# Altium schematic symbol library 树莓派模块.SchLib: 10 symbols
Pins are listed as number, name and electrical type; pins without a type are passive.

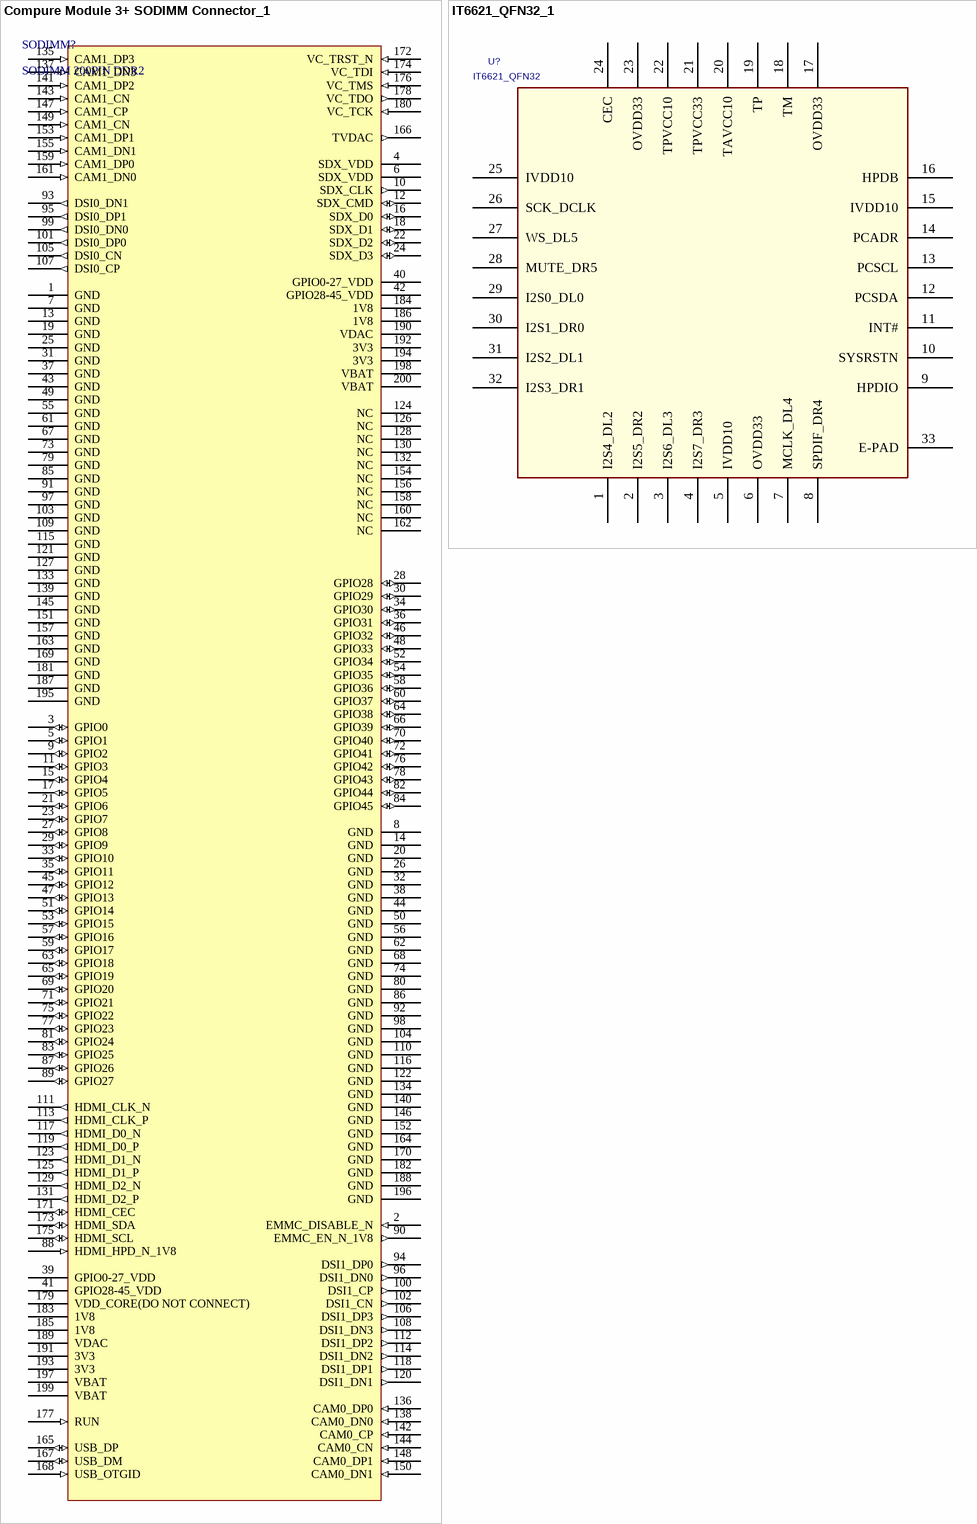
[diagram p0: symbols Compure Module 3+ SODIMM Connector_1 to IT6621_QFN32_1]

## Compure Module 3+ SODIMM Connector_1
designator SODIMM?, comment SODIMM 200PIN DDR2
ComponentLink1Description: DataSheets; ComponentLink1URL: https://www.raspberrypi.org/documentation/hardware/computemodule/datasheets/rpi_DATA_CM3plus_1p0.pdf
footprint SODIMM 200PIN (200 位 SODIMM DDR2 SDRAM 表面贴装)
pins: 1 GND (power), 2 EMMC_DISABLE_N (in), 3 GPIO0 (io), 4 SDX_VDD (power), 5 GPIO1 (io), 6 SDX_VDD (power), 7 GND (power), 8 GND (power), 9 GPIO2 (io), 10 SDX_CLK (out), 11 GPIO3 (io), 12 SDX_CMD (io), 13 GND (power), 14 GND (power), 15 GPIO4 (io), 16 SDX_D0 (io), 17 GPIO5 (io), 18 SDX_D1 (io), 19 GND (power), 20 GND (power), 21 GPIO6 (io), 22 SDX_D2 (io), 23 GPIO7 (io), 24 SDX_D3 (io), 25 GND (power), 26 GND (power), 27 GPIO8 (io), 28 GPIO28 (io), 29 GPIO9 (io), 30 GPIO29 (io), 31 GND (power), 32 GND (power), 33 GPIO10 (io), 34 GPIO30 (io), 35 GPIO11 (io), 36 GPIO31 (io), 37 GND (power), 38 GND (power), 39 GPIO0-27_VDD (power), 40 GPIO0-27_VDD (power), 41 GPIO28-45_VDD (power), 42 GPIO28-45_VDD (power), 43 GND (power), 44 GND (power), 45 GPIO12 (io), 46 GPIO32 (io), 47 GPIO13 (io), 48 GPIO33 (io), 49 GND (power), 50 GND (power), 51 GPIO14 (io), 52 GPIO34 (io), 53 GPIO15 (io), 54 GPIO35 (io), 55 GND (power), 56 GND (power), 57 GPIO16 (io), 58 GPIO36 (io), 59 GPIO17 (io), 60 GPIO37 (io), 61 GND (power), 62 GND (power), 63 GPIO18 (io), 64 GPIO38 (io), 65 GPIO19 (io), 66 GPIO39 (io), 67 GND (power), 68 GND (power), 69 GPIO20 (io), 70 GPIO40 (io), 71 GPIO21 (io), 72 GPIO41 (io), 73 GND (power), 74 GND (power), 75 GPIO22 (io), 76 GPIO42 (io), 77 GPIO23 (io), 78 GPIO43 (io), 79 GND (power), 80 GND (power), 81 GPIO24 (io), 82 GPIO44 (io), 83 GPIO25 (io), 84 GPIO45 (io), 85 GND (power), 86 GND (power), 87 GPIO26 (io), 88 HDMI_HPD_N_1V8 (in), 89 GPIO27 (io), 90 EMMC_EN_N_1V8 (out), 91 GND (power), 92 GND (power), 93 DSI0_DN1 (out), 94 DSI1_DP0 (out), 95 DSI0_DP1 (out), 96 DSI1_DN0 (out), 97 GND (power), 98 GND (power), 99 DSI0_DN0 (out), 100 DSI1_CP (out), 101 DSI0_DP0 (out), 102 DSI1_CN (out), 103 GND (power), 104 GND (power), 105 DSI0_CN (out), 106 DSI1_DP3 (out), 107 DSI0_CP (out), 108 DSI1_DN3 (out), 109 GND (power), 110 GND (power), 111 HDMI_CLK_N (out), 112 DSI1_DP2 (out), 113 HDMI_CLK_P (out), 114 DSI1_DN2 (out), 115 GND (power), 116 GND (power), 117 HDMI_D0_N (out), 118 DSI1_DP1 (out), 119 HDMI_D0_P (out), 120 DSI1_DN1 (out), 121 GND (power), 122 GND (power), 123 HDMI_D1_N (out), 124 NC, 125 HDMI_D1_P (out), 126 NC, 127 GND (power), 128 NC, 129 HDMI_D2_N (out), 130 NC, 131 HDMI_D2_P (out), 132 NC, 133 GND (power), 134 GND (power), 135 CAM1_DP3 (in), 136 CAM0_DP0 (in), 137 CAM1_DN3 (in), 138 CAM0_DN0 (in), 139 GND (power), 140 GND (power), 141 CAM1_DP2 (in), 142 CAM0_CP (in), 143 CAM1_CN (in), 144 CAM0_CN (in), 145 GND (power), 146 GND (power), 147 CAM1_CP (in), 148 CAM0_DP1 (in), 149 CAM1_CN (in), 150 CAM0_DN1 (in), 151 GND (power), 152 GND (power), 153 CAM1_DP1 (in), 154 NC, 155 CAM1_DN1 (in), 156 NC, 157 GND (power), 158 NC, 159 CAM1_DP0 (in), 160 NC, 161 CAM1_DN0 (in), 162 NC, 163 GND (power), 164 GND (power), 165 USB_DP (io), 166 TVDAC (out), 167 USB_DM (io), 168 USB_OTGID (in), 169 GND (power), 170 GND (power), 171 HDMI_CEC (io), 172 VC_TRST_N (in), 173 HDMI_SDA (io), 174 VC_TDI (in), 175 HDMI_SCL (io), 176 VC_TMS (in), 177 RUN (in), 178 VC_TDO (out), 179 VDD_CORE(DO NOT CONNECT) (power), 180 VC_TCK (in), 181 GND (power), 182 GND (power), 183 1V8 (power), 184 1V8 (power), 185 1V8 (power), 186 1V8 (power), 187 GND (power), 188 GND (power), 189 VDAC (power), 190 VDAC (power), 191 3V3 (power), 192 3V3 (power), 193 3V3 (power), 194 3V3 (power), 195 GND (power), 196 GND (power), 197 VBAT (power), 198 VBAT (power), 199 VBAT (power), 200 VBAT (power)

## IT6621_QFN32_1
designator U?, comment IT6621_QFN32
footprint QFN32_ITE
pins: 1 I2S4_DL2, 2 I2S5_DR2, 3 I2S6_DL3, 4 I2S7_DR3, 5 IVDD10, 6 OVDD33, 7 MCLK_DL4, 8 SPDIF_DR4, 9 HPDIO, 10 SYSRSTN, 11 INT#, 12 PCSDA, 13 PCSCL, 14 PCADR, 15 IVDD10, 16 HPDB, 17 OVDD33, 18 TM, 19 TP, 20 TAVCC10, 21 TPVCC33, 22 TPVCC10, 23 OVDD33, 24 CEC, 25 IVDD10, 26 SCK_DCLK, 27 WS_DL5, 28 MUTE_DR5, 29 I2S0_DL0, 30 I2S1_DR0, 31 I2S2_DL1, 32 I2S3_DR1, 33 E-PAD

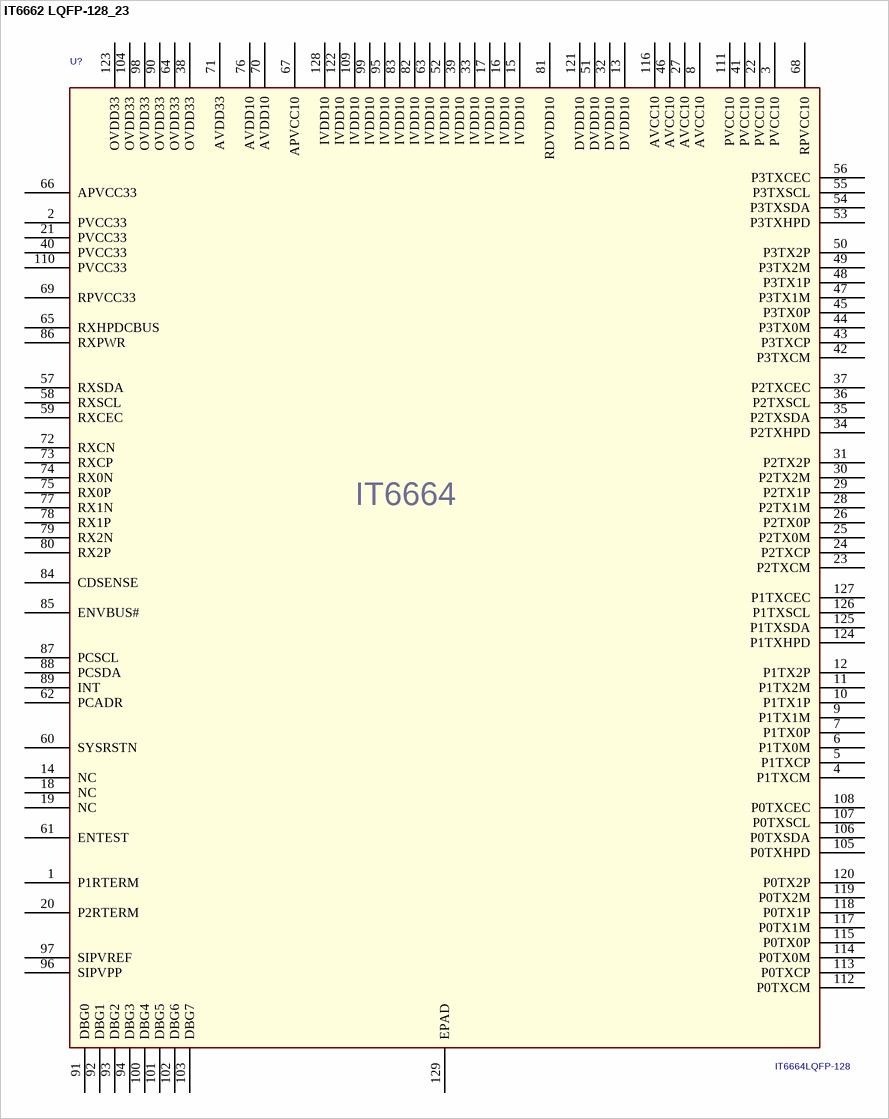
[diagram p1: symbol IT6662 LQFP-128_23]

## IT6662 LQFP-128_23
designator U?, comment IT6664LQFP-128
footprint VFBGA64
footprint CH6002
pins: 1 P1RTERM, 2 PVCC33, 3 PVCC10, 4 P1TXCM, 5 P1TXCP, 6 P1TX0M, 7 P1TX0P, 8 AVCC10, 9 P1TX1M, 10 P1TX1P, 11 P1TX2M, 12 P1TX2P, 13 DVDD10, 14 NC, 15 IVDD10, 16 IVDD10, 17 IVDD10, 18 NC, 19 NC, 20 P2RTERM, 21 PVCC33, 22 PVCC10, 23 P2TXCM, 24 P2TXCP, 25 P2TX0M, 26 P2TX0P, 27 AVCC10, 28 P2TX1M, 29 P2TX1P, 30 P2TX2M, 31 P2TX2P, 32 DVDD10, 33 IVDD10, 34 P2TXHPD, 35 P2TXSDA, 36 P2TXSCL, 37 P2TXCEC, 38 OVDD33, 39 IVDD10, 40 PVCC33, 41 PVCC10, 42 P3TXCM, 43 P3TXCP, 44 P3TX0M, 45 P3TX0P, 46 AVCC10, 47 P3TX1M, 48 P3TX1P, 49 P3TX2M, 50 P3TX2P, 51 DVDD10, 52 IVDD10, 53 P3TXHPD, 54 P3TXSDA, 55 P3TXSCL, 56 P3TXCEC, 57 RXSDA, 58 RXSCL, 59 RXCEC, 60 SYSRSTN, 61 ENTEST, 62 PCADR, 63 IVDD10, 64 OVDD33, 65 RXHPDCBUS, 66 APVCC33, 67 APVCC10, 68 RPVCC10, 69 RPVCC33, 70 AVDD10, 71 AVDD33, 72 RXCN, 73 RXCP, 74 RX0N, 75 RX0P, 76 AVDD10, 77 RX1N, 78 RX1P, 79 RX2N, 80 RX2P, 81 RDVDD10, 82 IVDD10, 83 IVDD10, 84 CDSENSE, 85 ENVBUS#, 86 RXPWR, 87 PCSCL, 88 PCSDA, 89 INT, 90 OVDD33, 91 DBG0, 92 DBG1, 93 DBG2, 94 DBG3, 95 IVDD10, 96 SIPVPP, 97 SIPVREF, 98 OVDD33, 99 IVDD10, 100 DBG4, 101 DBG5, 102 DBG6, 103 DBG7, 104 OVDD33, 105 P0TXHPD, 106 P0TXSDA, 107 P0TXSCL, 108 P0TXCEC, 109 IVDD10, 110 PVCC33, 111 PVCC10, 112 P0TXCM, 113 P0TXCP, 114 P0TX0M, 115 P0TX0P, 116 AVCC10, 117 P0TX1M, 118 P0TX1P, 119 P0TX2M, 120 P0TX2P, 121 DVDD10, 122 IVDD10, 123 OVDD33, 124 P1TXHPD, 125 P1TXSDA, 126 P1TXSCL, 127 P1TXCEC, 128 IVDD10, 129 EPAD
text: IT6664

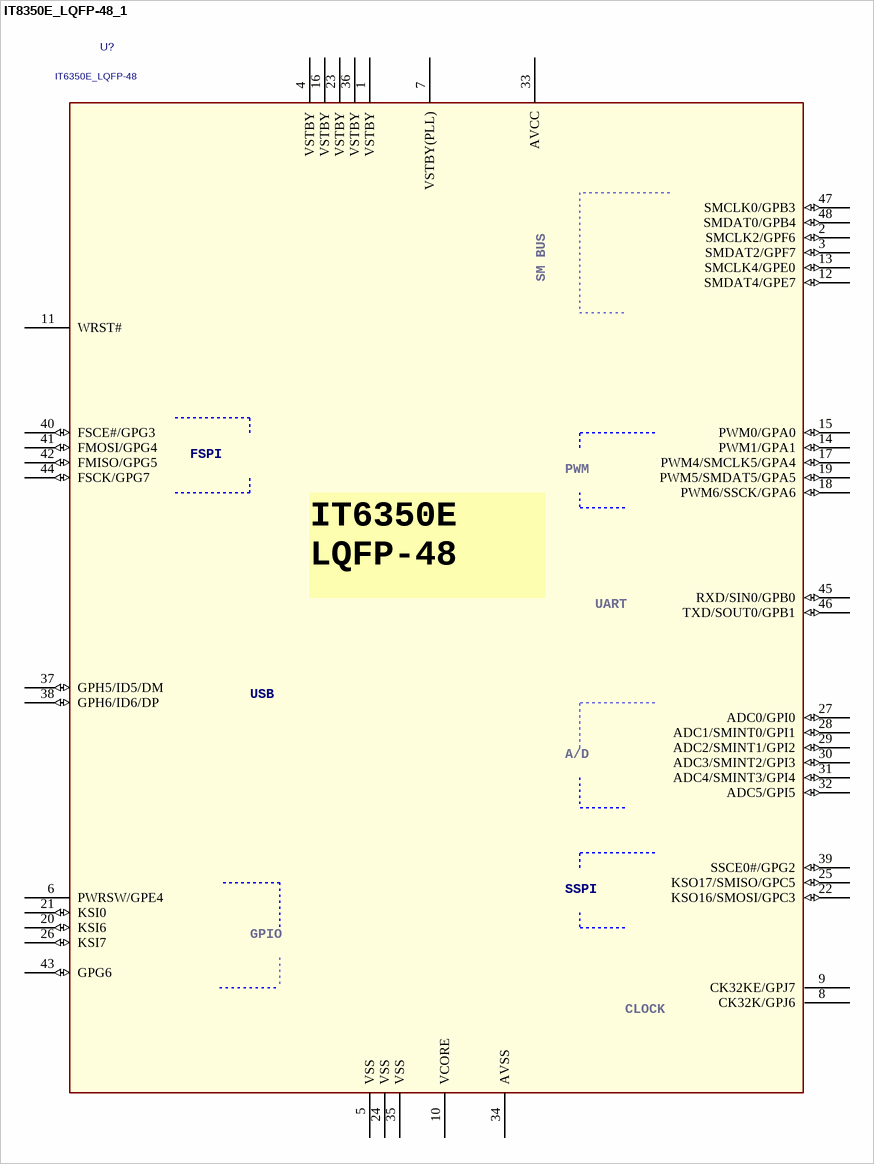
[diagram p2: symbol IT8350E_LQFP-48_1]

## IT8350E_LQFP-48_1
designator U?, comment IT6350E_LQFP-48
footprint LQFP\48
pins: 1 VSTBY (power), 2 SMCLK2/GPF6 (io), 3 SMDAT2/GPF7 (io), 4 VSTBY (power), 5 VSS (power), 6 PWRSW/GPE4, 7 VSTBY(PLL) (power), 8 CK32K/GPJ6, 9 CK32KE/GPJ7, 10 VCORE, 11 WRST#, 12 SMDAT4/GPE7 (io), 13 SMCLK4/GPE0 (io), 14 PWM1/GPA1 (io), 15 PWM0/GPA0 (io), 16 VSTBY (power), 17 PWM4/SMCLK5/GPA4 (io), 18 PWM6/SSCK/GPA6 (io), 19 PWM5/SMDAT5/GPA5 (io), 20 KSI6 (io), 21 KSI0 (io), 22 KSO16/SMOSI/GPC3 (io), 23 VSTBY (power), 24 VSS (power), 25 KSO17/SMISO/GPC5 (io), 26 KSI7 (io), 27 ADC0/GPI0 (io), 28 ADC1/SMINT0/GPI1 (io), 29 ADC2/SMINT1/GPI2 (io), 30 ADC3/SMINT2/GPI3 (io), 31 ADC4/SMINT3/GPI4 (io), 32 ADC5/GPI5 (io), 33 AVCC (power), 34 AVSS (power), 35 VSS (power), 36 VSTBY (power), 37 GPH5/ID5/DM (io), 38 GPH6/ID6/DP (io), 39 SSCE0#/GPG2 (io), 40 FSCE#/GPG3 (io), 41 FMOSI/GPG4 (io), 42 FMISO/GPG5 (io), 43 GPG6 (io), 44 FSCK/GPG7 (io), 45 RXD/SIN0/GPB0 (io), 46 TXD/SOUT0/GPB1 (io), 47 SMCLK0/GPB3 (io), 48 SMDAT0/GPB4 (io)
text: SM BUS; FSPI; PWM; IT6350E / LQFP-48; UART; USB; A/D; SSPI; GPIO; CLOCK

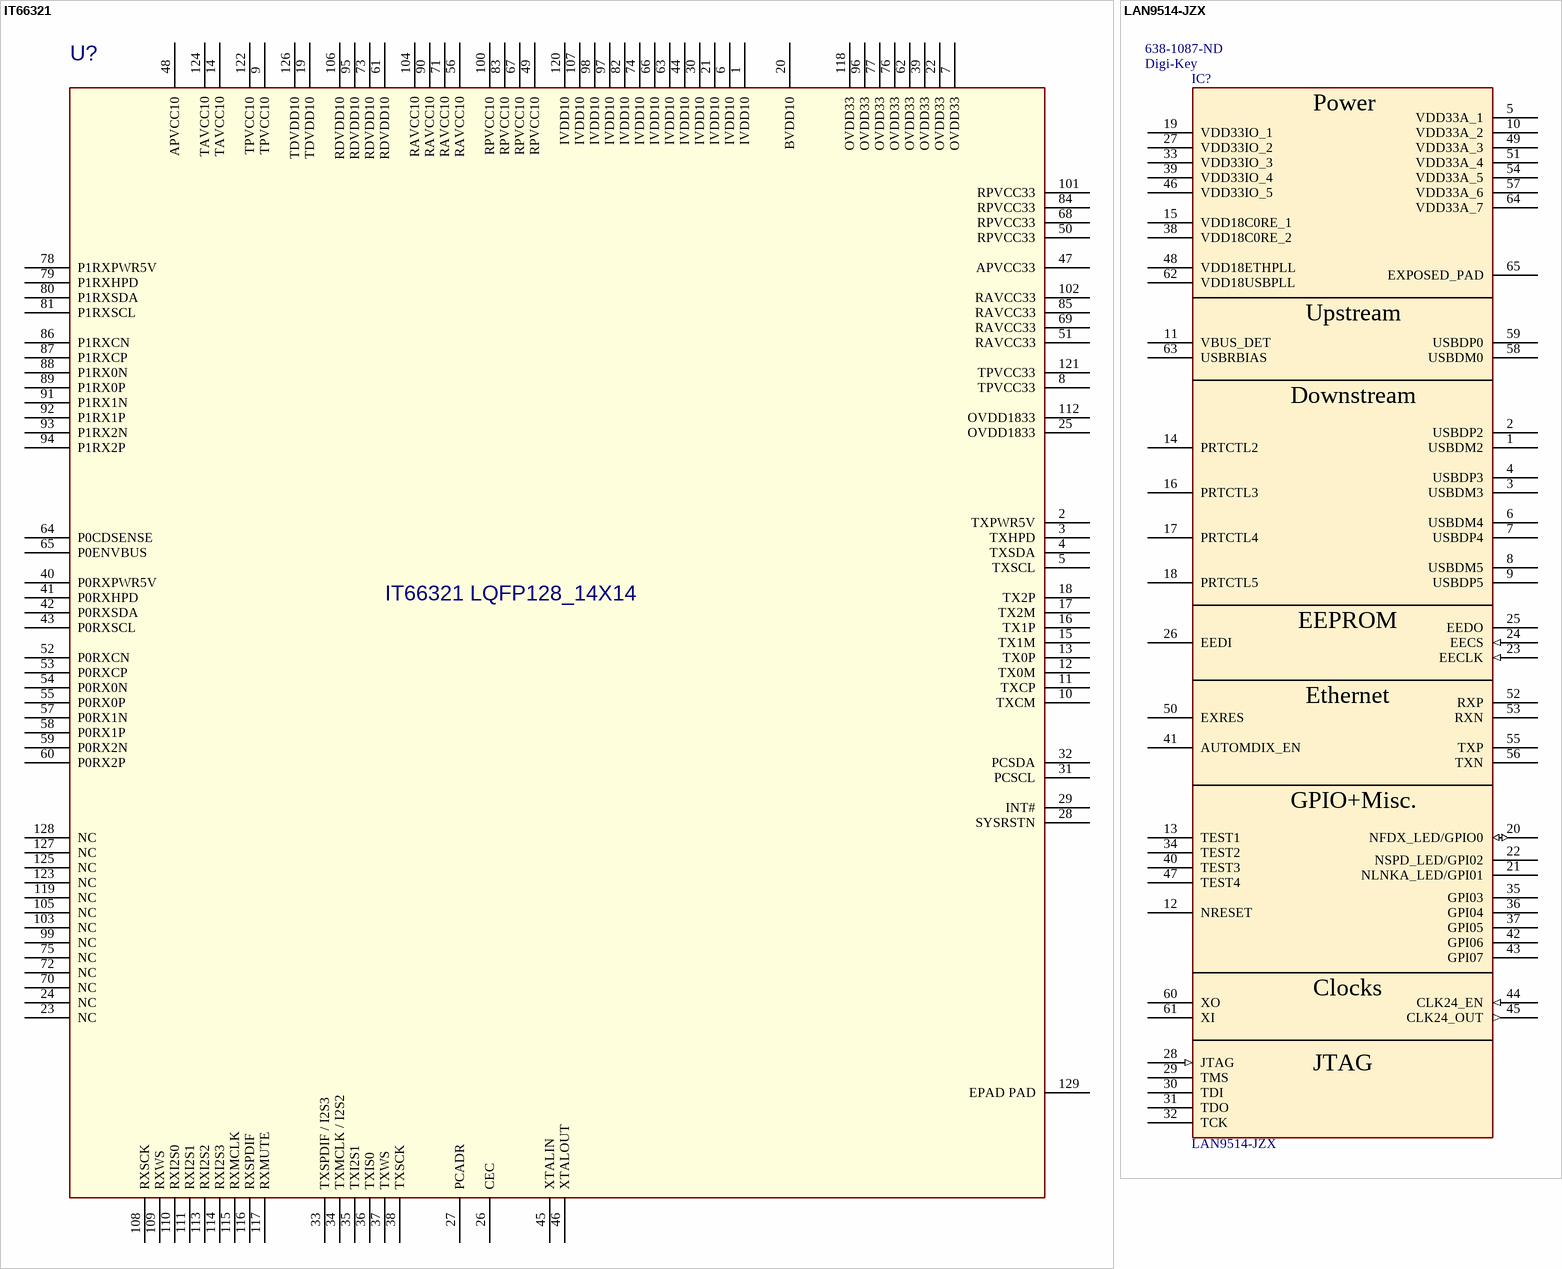
[diagram p3: symbols IT66321 to LAN9514-JZX]

## IT66321
designator U?, comment IT66321 LQFP128_14X14
footprint LQFP-128
footprint LQFP128
pins: 1 IVDD10, 2 TXPWR5V, 3 TXHPD, 4 TXSDA, 5 TXSCL, 6 IVDD10, 7 OVDD33, 8 TPVCC33, 9 TPVCC10, 10 TXCM, 11 TXCP, 12 TX0M, 13 TX0P, 14 TAVCC10, 15 TX1M, 16 TX1P, 17 TX2M, 18 TX2P, 19 TDVDD10, 20 BVDD10, 21 IVDD10, 22 OVDD33, 23 NC, 24 NC, 25 OVDD1833, 26 CEC, 27 PCADR, 28 SYSRSTN, 29 INT#, 30 IVDD10, 31 PCSCL, 32 PCSDA, 33 TXSPDIF / I2S3, 34 TXMCLK / I2S2, 35 TXI2S1, 36 TXIS0, 37 TXWS, 38 TXSCK, 39 OVDD33, 40 P0RXPWR5V, 41 P0RXHPD, 42 P0RXSDA, 43 P0RXSCL, 44 IVDD10, 45 XTALIN, 46 XTALOUT, 47 APVCC33, 48 APVCC10, 49 RPVCC10, 50 RPVCC33, 51 RAVCC33, 52 P0RXCN, 53 P0RXCP, 54 P0RX0N, 55 P0RX0P, 56 RAVCC10, 57 P0RX1N, 58 P0RX1P, 59 P0RX2N, 60 P0RX2P, 61 RDVDD10, 62 OVDD33, 63 IVDD10, 64 P0CDSENSE, 65 P0ENVBUS, 66 IVDD10, 67 RPVCC10, 68 RPVCC33, 69 RAVCC33, 70 NC, 71 RAVCC10, 72 NC, 73 RDVDD10, 74 IVDD10, 75 NC, 76 OVDD33, 77 OVDD33, 78 P1RXPWR5V, 79 P1RXHPD, 80 P1RXSDA, 81 P1RXSCL, 82 IVDD10, 83 RPVCC10, 84 RPVCC33, 85 RAVCC33, 86 P1RXCN, 87 P1RXCP, 88 P1RX0N, 89 P1RX0P, 90 RAVCC10, 91 P1RX1N, 92 P1RX1P, 93 P1RX2N, 94 P1RX2P, 95 RDVDD10, 96 OVDD33, 97 IVDD10, 98 IVDD10, 99 NC, 100 RPVCC10, 101 RPVCC33, 102 RAVCC33, 103 NC, 104 RAVCC10, 105 NC, 106 RDVDD10, 107 IVDD10, 108 RXSCK, 109 RXWS, 110 RXI2S0, 111 RXI2S1, 112 OVDD1833, 113 RXI2S2, 114 RXI2S3, 115 RXMCLK, 116 RXSPDIF, 117 RXMUTE, 118 OVDD33, 119 NC, 120 IVDD10, 121 TPVCC33, 122 TPVCC10, 123 NC, 124 TAVCC10, 125 NC, 126 TDVDD10, 127 NC, 128 NC, 129 EPAD PAD

## LAN9514-JZX
designator IC?  Supplier 1: Digi-Key  Supplier Part Number 1: 638-1087-ND
USB2.0 Hub 10/100Mbps Controller QFN64; Manufacturer_Name: Microchip; Allied_Number: 70414988; Datasheet Link: http://docs-emea.rs-online.com/webdocs/11a5/0900766b811a553b.pdf; Height: 1mm; Manufacturer_Part_Number: LAN9514-JZX; Mouser Part Number: 886-LAN9514-JZX; Mouser Price/Stock: https://www.mouser.com/Search/Refine.aspx?Keyword=886-LAN9514-JZX; RS Part Number: 7729610P; RS Price/Stock: http://uk.rs-online.com/web/p/products/7729610P; Allied Price/Stock: http://www.alliedelec.com/microchip-technology-inc-lan9514-jzx/70414988/
footprint QFN50P900X900X100-65N-D
pins: 1 USBDM2, 2 USBDP2, 3 USBDM3, 4 USBDP3, 5 VDD33A_1 (power), 6 USBDM4, 7 USBDP4, 8 USBDM5, 9 USBDP5, 10 VDD33A_2 (power), 11 VBUS_DET, 12 NRESET, 13 TEST1, 14 PRTCTL2, 15 VDD18C0RE_1 (power), 16 PRTCTL3, 17 PRTCTL4, 18 PRTCTL5, 19 VDD33IO_1 (power), 20 NFDX_LED/GPIO0 (io), 21 NLNKA_LED/GPI01, 22 NSPD_LED/GPI02, 23 EECLK (in), 24 EECS (in), 25 EEDO, 26 EEDI, 27 VDD33IO_2 (power), 28 JTAG (in), 29 TMS, 30 TDI, 31 TDO, 32 TCK, 33 VDD33IO_3 (power), 34 TEST2, 35 GPI03, 36 GPI04, 37 GPI05, 38 VDD18C0RE_2 (power), 39 VDD33IO_4 (power), 40 TEST3, 41 AUTOMDIX_EN, 42 GPI06, 43 GPI07, 44 CLK24_EN (in), 45 CLK24_OUT (out), 46 VDD33IO_5 (power), 47 TEST4, 48 VDD18ETHPLL (power), 49 VDD33A_3 (power), 50 EXRES, 51 VDD33A_4 (power), 52 RXP, 53 RXN, 54 VDD33A_5 (power), 55 TXP, 56 TXN, 57 VDD33A_6 (power), 58 USBDM0, 59 USBDP0, 60 XO, 61 XI, 62 VDD18USBPLL (power), 63 USBRBIAS, 64 VDD33A_7 (power), 65 EXPOSED_PAD
text: Power; Upstream; Downstream; EEPROM; Ethernet; GPIO+Misc.; Clocks

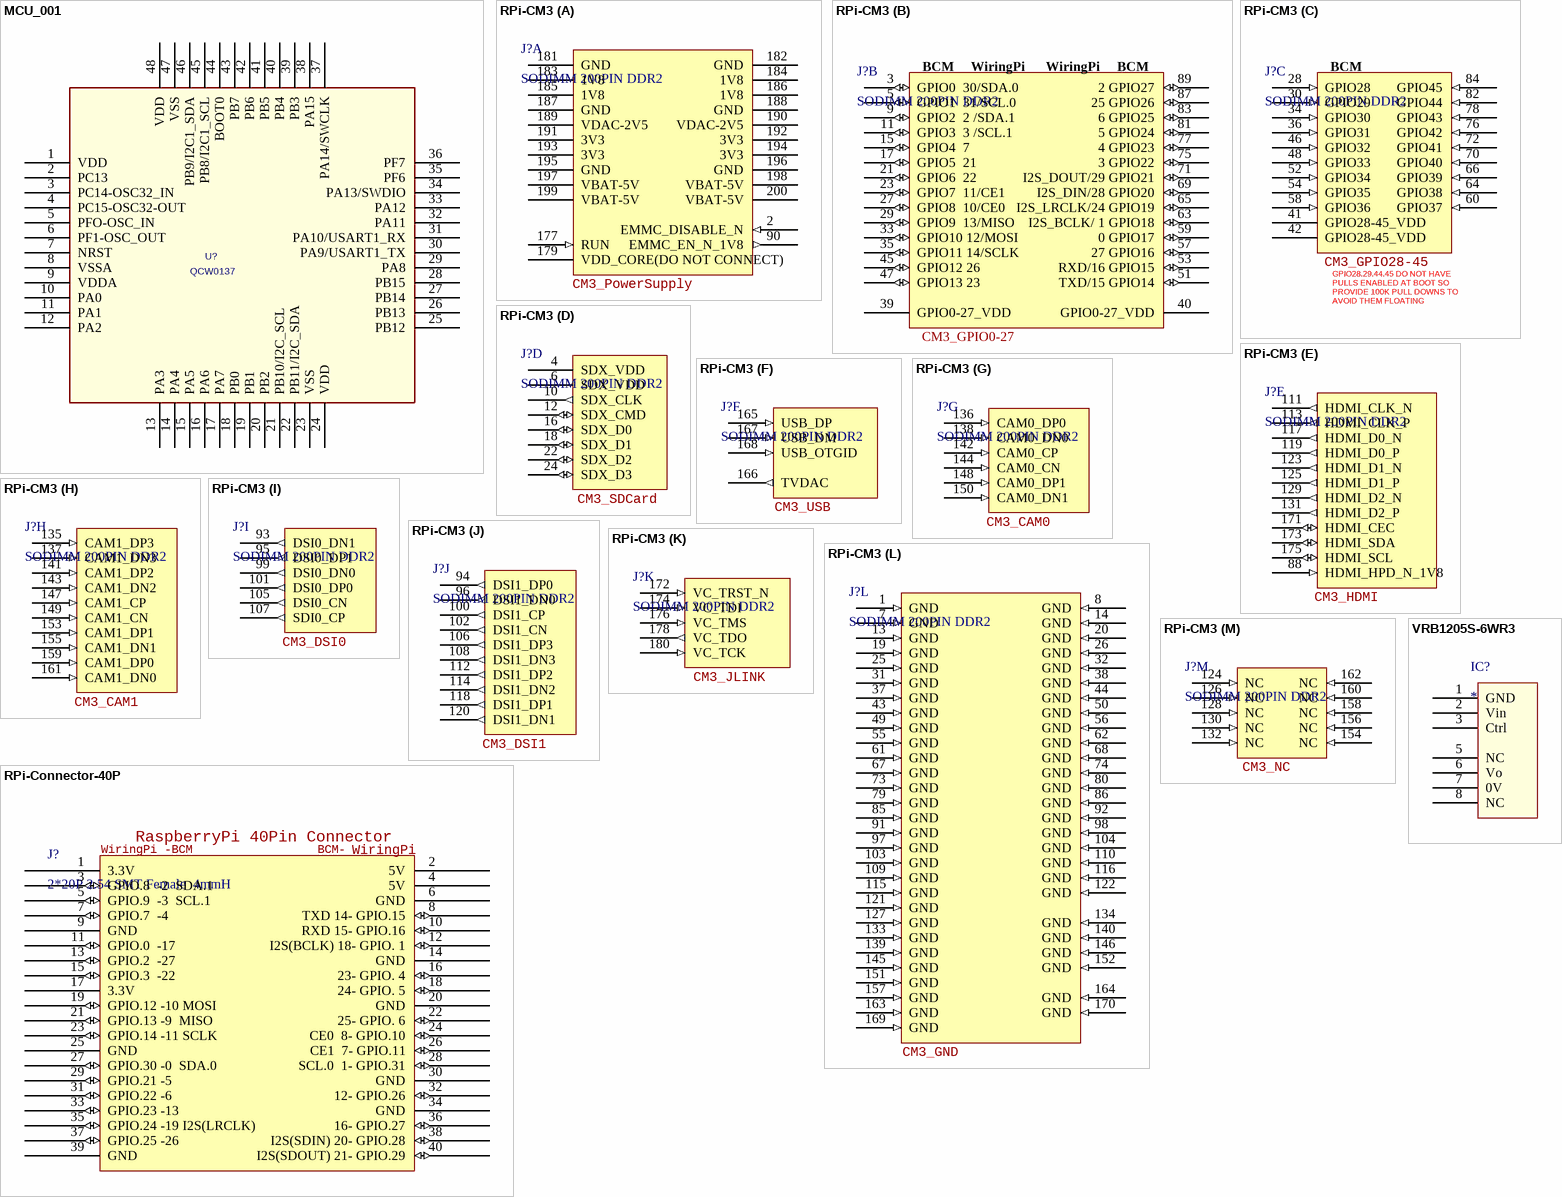
[diagram p4: symbols MCU_001 to VRB1205S-6WR3]

## MCU_001
designator U?, comment QCW0137
footprint LQFP48
pins: 1 VDD (power), 2 PC13, 3 PC14-OSC32_IN, 4 PC15-OSC32-OUT, 5 PFO-OSC_IN, 6 PF1-OSC_OUT, 7 NRST, 8 VSSA, 9 VDDA, 10 PA0, 11 PA1, 12 PA2, 13 PA3, 14 PA4, 15 PA5, 16 PA6, 17 PA7, 18 PB0, 19 PB1, 20 PB2, 21 PB10/I2C_SCL, 22 PB11/I2C_SDA, 23 VSS (power), 24 VDD (power), 25 PB12, 26 PB13, 27 PB14, 28 PB15, 29 PA8, 30 PA9/USART1_TX, 31 PA10/USART1_RX, 32 PA11, 33 PA12, 34 PA13/SWDIO, 35 PF6, 36 PF7, 37 PA14/SWCLK, 38 PA15, 39 PB3, 40 PB4, 41 PB5, 42 PB6, 43 PB7, 44 BOOT0, 45 PB8/I2C1_SCL, 46 PB9/I2C1_SDA, 47 VSS (power), 48 VDD (power)

## RPi-CM3
designator J?, comment SODIMM 200PIN DDR2
footprint SODIMM 200PIN - 5.2H (200 位 SODIMM DDR2 SDRAM 表面贴装)
part A pins: 2 EMMC_DISABLE_N (in) "Has internal 10k pull up", 90 EMMC_EN_N_1V8 (out) "Has internal 2k2 pull up", 177 RUN (in) "Has internal 10k pull up", 179 VDD_CORE(DO NOT CONNECT) (power), 181 GND (power), 182 GND (power), 183 1V8 (power), 184 1V8 (power), 185 1V8 (power), 186 1V8 (power), 187 GND (power), 188 GND (power), 189 VDAC-2V5 (power) "TV DAC Supply", 190 VDAC-2V5 (power) "TV DAC Supply", 191 3V3 (power), 192 3V3 (power), 193 3V3 (power), 194 3V3 (power), 195 GND (power), 196 GND (power), 197 VBAT-5V (power) "Core SMPS Supply", 198 VBAT-5V (power) "Core SMPS Supply", 199 VBAT-5V (power) "Core SMPS Supply", 200 VBAT-5V (power) "Core SMPS Supply"
part B pins: 3 GPIO0  30/SDA.0 (io), 5 GPIO1  31/SCL.0 (io), 9 GPIO2  2 /SDA.1 (io), 11 GPIO3  3 /SCL.1 (io), 15 GPIO4  7 (io), 17 GPIO5  21 (io), 21 GPIO6  22 (io), 23 GPIO7  11/CE1 (io), 27 GPIO8  10/CE0 (io), 29 GPIO9  13/MISO (io), 33 GPIO10 12/MOSI (io), 35 GPIO11 14/SCLK (io), 39 GPIO0-27_VDD (power), 40 GPIO0-27_VDD (power), 45 GPIO12 26 (io), 47 GPIO13 23 (io), 51 TXD/15 GPIO14 (io), 53 RXD/16 GPIO15 (io), 57 27 GPIO16 (io), 59  0 GPIO17 (io), 63 I2S_BCLK/ 1 GPIO18 (io), 65 I2S_LRCLK/24 GPIO19 (io), 69 I2S_DIN/28 GPIO20 (io), 71 I2S_DOUT/29 GPIO21 (io), 75  3 GPIO22 (io), 77  4 GPIO23 (io), 81  5 GPIO24 (io), 83  6 GPIO25 (io), 87 25 GPIO26 (io), 89  2 GPIO27 (io)
part C pins: 28 GPIO28 (in), 30 GPIO29 (in), 34 GPIO30 (in), 36 GPIO31 (in), 41 GPIO28-45_VDD (power), 42 GPIO28-45_VDD (power), 46 GPIO32 (in), 48 GPIO33 (in), 52 GPIO34 (in), 54 GPIO35 (in), 58 GPIO36 (in), 60 GPIO37 (in), 64 GPIO38 (in), 66 GPIO39 (in), 70 GPIO40 (in), 72 GPIO41 (in), 76 GPIO42 (in), 78 GPIO43 (in), 82 GPIO44 (in), 84 GPIO45 (in)
part D pins: 4 SDX_VDD (power), 6 SDX_VDD (power), 10 SDX_CLK (out), 12 SDX_CMD (io), 16 SDX_D0 (io), 18 SDX_D1 (io), 22 SDX_D2 (io), 24 SDX_D3 (io)
part E pins: 88 HDMI_HPD_N_1V8 (in) "HDMI hotpulg detect. PDN(Pull High)", 111 HDMI_CLK_N (out), 113 HDMI_CLK_P (out), 117 HDMI_D0_N (out), 119 HDMI_D0_P (out), 123 HDMI_D1_N (out), 125 HDMI_D1_P (out), 129 HDMI_D2_N (out), 131 HDMI_D2_P (out), 171 HDMI_CEC (io) "CEC(has internal 27k pull up  )", 173 HDMI_SDA (io), 175 HDMI_SCL (io)
part F pins: 165 USB_DP (in), 166 TVDAC (out), 167 USB_DM (in), 168 USB_OTGID (in) "OTG pin detect PDN(Tie to GND)"
part G pins: 136 CAM0_DP0 (in), 138 CAM0_DN0 (in), 142 CAM0_CP (in), 144 CAM0_CN (in), 148 CAM0_DP1 (in), 150 CAM0_DN1 (in)
part H pins: 135 CAM1_DP3 (in), 137 CAM1_DN3 (in), 141 CAM1_DP2 (in), 143 CAM1_DN2 (in), 147 CAM1_CP (in), 149 CAM1_CN (in), 153 CAM1_DP1 (in), 155 CAM1_DN1 (in), 159 CAM1_DP0 (in), 161 CAM1_DN0 (in)
part I pins: 93 DSI0_DN1 (out), 95 DSI0_DP1 (out), 99 DSI0_DN0 (out), 101 DSI0_DP0 (out), 105 DSI0_CN (out), 107 SDI0_CP (out)
part J pins: 94 DSI1_DP0 (out), 96 DSI1_DN0 (out), 100 DSI1_CP (out), 102 DSI1_CN (out), 106 DSI1_DP3 (out), 108 DSI1_DN3 (out), 112 DSI1_DP2 (out), 114 DSI1_DN2 (out), 118 DSI1_DP1 (out), 120 DSI1_DN1 (out)
part K pins: 172 VC_TRST_N (in), 174 VC_TDI (in), 176 VC_TMS (in), 178 VC_TDO (out), 180 VC_TCK (in)
part L pins: 1 GND (in), 7 GND (in), 8 GND (in), 13 GND (in), 14 GND (in), 19 GND (in), 20 GND (in), 25 GND (in), 26 GND (in), 31 GND (in), 32 GND (in), 37 GND (in), 38 GND (in), 43 GND (in), 44 GND (in), 49 GND (in), 50 GND (in), 55 GND (in), 56 GND (in), 61 GND (in), 62 GND (in), 67 GND (in), 68 GND (in), 73 GND (in), 74 GND (in), 79 GND (in), 80 GND (in), 85 GND (in), 86 GND (in), 91 GND (in), 92 GND (in), 97 GND (in), 98 GND (in), 103 GND (in), 104 GND (in), 109 GND (in), 110 GND (in), 115 GND (in), 116 GND (in), 121 GND (in), 122 GND (in), 127 GND (in), 133 GND (in), 134 GND (in), 139 GND (in), 140 GND (in), 145 GND (in), 146 GND (in), 151 GND (in), 152 GND (in), 157 GND (in), 163 GND (in), 164 GND (in), 169 GND (in), 170 GND (in)
part M pins: 124 NC (in), 126 NC (in), 128 NC (in), 130 NC (in), 132 NC (in), 154 NC (in), 156 NC (in), 158 NC (in), 160 NC (in), 162 NC (in)
part A text: CM3_PowerSupply
part B text: BCM; WiringPi; CM3_GPIO0-27
part C text: BCM; CM3_GPIO28-45; GPIO28.29.44.45 DO NOT HAVE PULLS ENABLED AT BOOT SO PROVIDE 100K PULL DOWNS TO AVOID THEM FLOATING
part D text: CM3_SDCard
part E text: CM3_HDMI
part F text: CM3_USB
part G text: CM3_CAM0
part H text: CM3_CAM1
part I text: CM3_DSI0
part J text: CM3_DSI1
part K text: CM3_JLINK
part L text: CM3_GND
part M text: CM3_NC

## RPi-Connector-40P
designator J?, comment 2*20P 2.54 SMT Female  4mmH
footprint SMT2X20/2.54x3.5-Bottom
footprint SMT2X20/2.54x3.5-Top
footprint SMT2X20/2.54X3.5 NonHole
pins: 1 3.3V (power), 2 5V (power), 3 GPIO.8  -2  SDA.1 (io), 4 5V (power), 5 GPIO.9  -3  SCL.1 (io), 6 GND (power), 7 GPIO.7  -4 (io), 8 TXD 14- GPIO.15 (io), 9 GND (power), 10 RXD 15- GPIO.16 (io), 11 GPIO.0  -17 (io), 12 I2S(BCLK) 18- GPIO. 1 (io), 13 GPIO.2  -27 (io), 14 GND (power), 15 GPIO.3  -22 (io), 16 23- GPIO. 4 (io), 17 3.3V (power), 18 24- GPIO. 5 (io), 19 GPIO.12 -10 MOSI (io), 20 GND (power), 21 GPIO.13 -9  MISO (io), 22 25- GPIO. 6 (io), 23 GPIO.14 -11 SCLK (io), 24 CE0  8- GPIO.10 (io), 25 GND (power), 26 CE1  7- GPIO.11 (io), 27 GPIO.30 -0  SDA.0 (io), 28 SCL.0  1- GPIO.31 (io), 29 GPIO.21 -5 (io), 30 GND (power), 31 GPIO.22 -6 (io), 32 12- GPIO.26 (io), 33 GPIO.23 -13 (io), 34 GND (power), 35 GPIO.24 -19 I2S(LRCLK) (io), 36 16- GPIO.27 (io), 37 GPIO.25 -26 (io), 38 I2S(SDIN) 20- GPIO.28 (io), 39 GND (power), 40 I2S(SDOUT) 21- GPIO.29 (io)
text: RaspberryPi 40Pin Connector; WiringPi; -BCM; BCM-

## VRB1205S-6WR3
designator IC?
DCDC隔离模块
footprint VRB1205S (DCDC模块)
pins: 1 GND (power), 2 Vin (power), 3 Ctrl (power), 5 NC (power), 6 Vo (power), 7 0V (power), 8 NC (power)